# EAGLE library part R5F10278 (library LITTLEBITS140826)
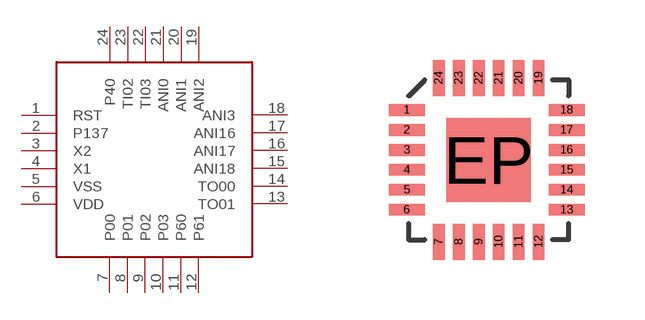
[diagram p40: symbol with the pads of QFN-24(4MM); footprint QFN-24(4MM)]

Designator prefix -

## R5F10278QFN-24  [QFN-24(4MM)]
1  RST
2  P137
3  X2
4  X1
5  VSS
6  VDD
7  P00
8  P01
9  P02
10  P03
11  P60
12  P61
13  TO01
14  TO00
15  ANI18
16  ANI17
17  ANI16
18  ANI3
19  ANI2
20  ANI1
21  ANI0
22  TI03
23  TI02
24  P40

## Footprint QFN-24(4MM) (pad centres in mm)
smd 0.9 x 0.3: 1 0,3.3; 2 0,2.8; 3 0,2.3; 4 0,1.8; 5 0,1.3; 6 0,0.8; 13 4,0.8; 14 4,1.3; 15 4,1.8; 16 4,2.3; 17 4,2.8; 18 4,3.3
smd 0.3 x 0.9: 7 0.8,0; 8 1.3,0; 9 1.8,0; 10 2.3,0; 11 2.8,0; 12 3.3,0; 19 3.3,4.1; 20 2.8,4.1; 21 2.3,4.1; 22 1.8,4.1; 23 1.3,4.1; 24 0.8,4.1
smd 2.1 x 2.1: EP 2.05,2.05